# Altium schematic symbol library PowerDistribution.SchLib: 28 symbols
Pins are listed as number, name and electrical type; pins without a type are passive.

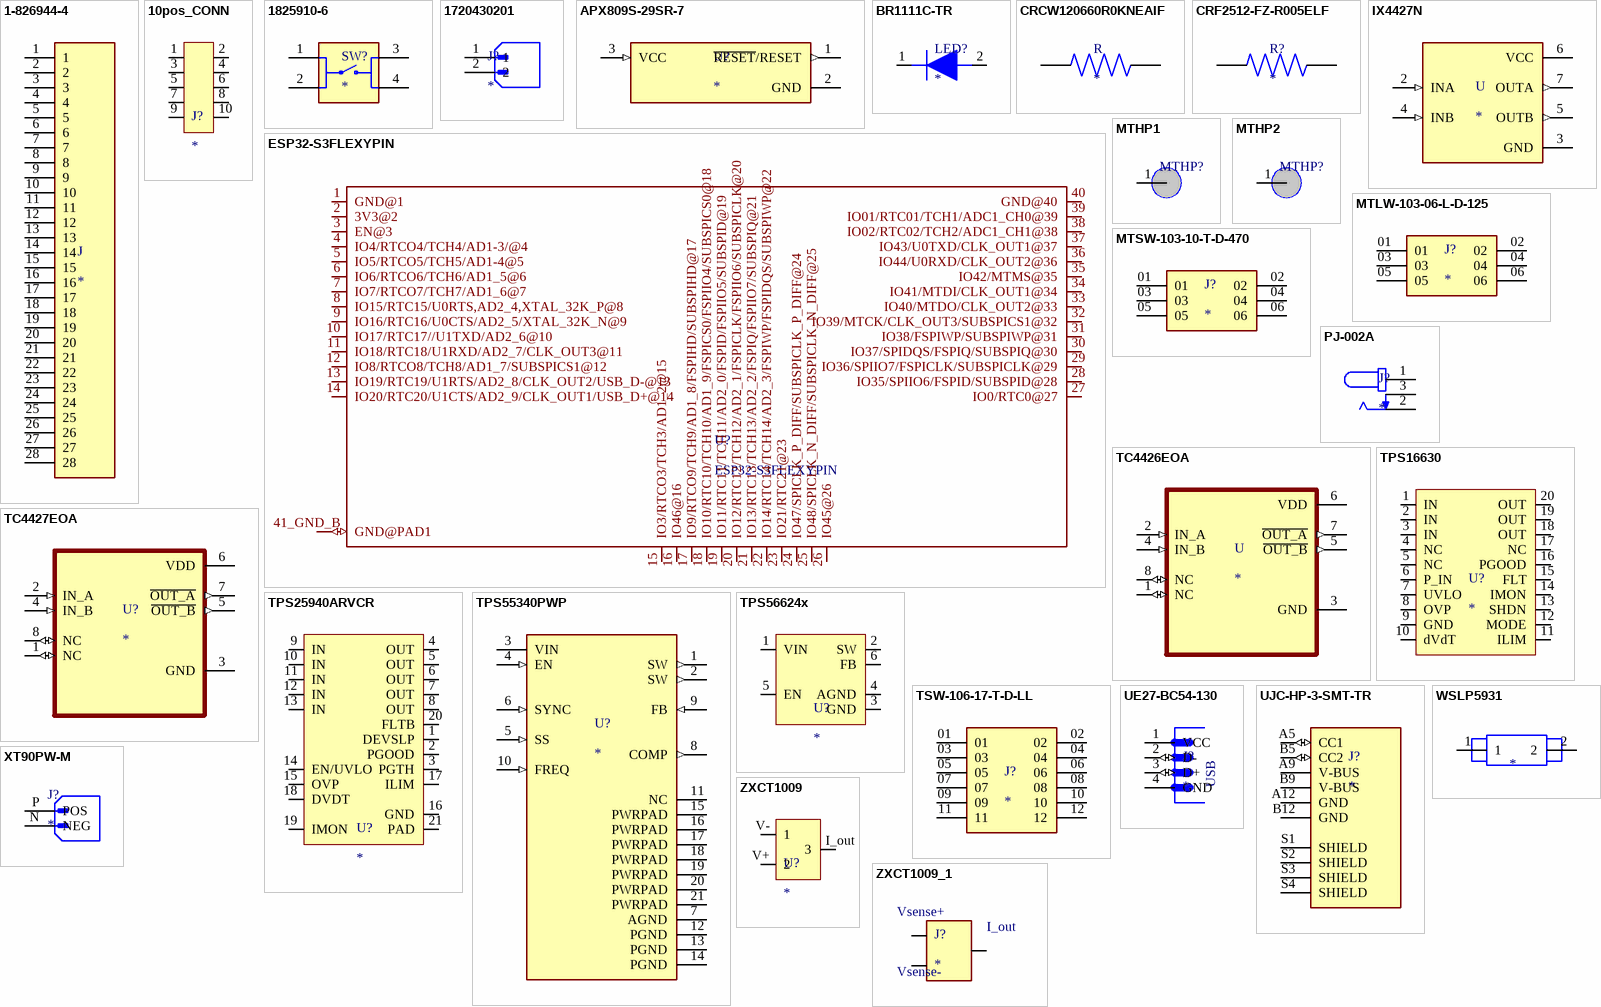
[diagram p0: symbols 1-826944-4 to ZXCT1009_1]

## 1-826944-4
designator J
Pin Connector 2X14 P MODU II BRK AWY HDR, TIN, B8 28 POS; MP: 1-826944-4; MF: TE Connectivity; SnapEDA_Link: https://www.snapeda.com/parts/1-826944-4/TE%20Connectivity/view-part/3096440/?ref=snap; Price: None; TE_purchase_URL: https://www.te.com/usa-en/product-1-826944-4.html?te_bu=Cor&te_type=disp&te_campaign=seda_glo_cor-seda-global-disp-prtnr-fy19-seda-model-bom-cta_sma-317_1&elqCampaignId=32493; Value: *; Availability: Unavailable; Package: None
footprint TE_1-826944-4
pins: 1, 2, 3, 4, 5, 6, 7, 8, 9, 10, 11, 12, 13, 14, 15, 16, 17, 18, 19, 20, 21, 22, 23, 24, 25, 26, 27, 28

## 10pos_CONN
designator J?
footprint 61301021121
pins: 1, 2, 3, 4, 5, 6, 7, 8, 9, 10

## 1825910-6
designator SW?
Switch Push Button OFF (ON) SPST Round Button 0.05A 24VDC Momentary Contact PC Pins Thru-Hole; MP: 1825910-6; MF: TE Connectivity; Value: *; Package: None; Check_prices: https://www.snapeda.com/parts/1825910-6/TE+Connectivity+ALCOSWITCH+Switches/view-part/?ref=eda; SnapEDA_Link: https://www.snapeda.com/parts/1825910-6/TE+Connectivity+ALCOSWITCH+Switches/view-part/?ref=snap; Digi-Key_Part_Number: 450-1650-ND; Purchase-URL: https://pricing.snapeda.com/search/part/1825910-6/?ref=eda
footprint SW_1825910-6-4
pins: 1, 2, 3, 4

## 1720430201
designator J?
MP: 1720430201; Value: *; Price: None; Availability: Unavailable; Package: None
footprint MOLEX_1720430201
pins: 1, 2

## APX809S-29SR-7
designator U?
Supervisor Push-Pull, Totem Pole 1 Channel SOT-23-3; MF: Diodes Inc.; MP: APX809S-29SR-7; SnapEDA_Link: https://www.snapeda.com/parts/APX809S-29SR-7/Diodes+Inc./view-part/?ref=snap; Package: SOT-23-3 Diodes Inc.; Value: *; Check_prices: https://www.snapeda.com/parts/APX809S-29SR-7/Diodes+Inc./view-part/?ref=eda
footprint SOT91P240X110-3N
pins: 1 ~{RESET}/RESET (out), 2 GND (power), 3 VCC (in)

## BR1111C-TR
designator LED?
footprint LED_APHD1608LVBC/D
pins: 1, 2

## CRCW120660R0KNEAIF
designator R
60 Ohms Â±10% 0.25W, 1/4W Chip Resistor 1206 (3216 Metric) Automotive AEC-Q200, Pulse Withstanding Thick Film; MP: CRCW120660R0KNEAIF; MF: Vishay Dale; Value: *; Package: 3116 Vishay; SnapEDA_Link: https://www.snapeda.com/parts/CRCW120660R0KNEAIF/Vishay%20Dale/view-part/988213/?ref=snap; Digi-Key_Part_Number: 541-CRCW120660R0KNEAIFCT-ND
footprint RESC3116X60N
pins: 1, 2

## CRF2512-FZ-R005ELF
designator R?
RES SMD 5 MOHM 1% 2W 2512; MP: CRF2512-FZ-R005ELF; Package: None; Price: None; Value: *; Availability: Unavailable
footprint RESC3116X60N
pins: 1, 2

## ESP32-S3FLEXYPIN
designator U?
footprint ESP32-S3-FLEXYPIN
pins: 1 GND@1 (io), 2 3V3@2 (io), 3 EN@3 (io), 4 IO4/RTCO4/TCH4/AD1-3/@4 (io), 5 IO5/RTCO5/TCH5/AD1-4@5 (io), 6 IO6/RTCO6/TCH6/AD1_5@6 (io), 7 IO7/RTCO7/TCH7/AD1_6@7 (io), 8 IO15/RTC15/U0RTS,AD2_4,XTAL_32K_P@8 (io), 9 IO16/RTC16/U0CTS/AD2_5/XTAL_32K_N@9 (io), 10 IO17/RTC17//U1TXD/AD2_6@10 (io), 11 IO18/RTC18/U1RXD/AD2_7/CLK_OUT3@11 (io), 12 IO8/RTCO8/TCH8/AD1_7/SUBSPICS1@12 (io), 13 IO19/RTC19/U1RTS/AD2_8/CLK_OUT2/USB_D-@13 (io), 14 IO20/RTC20/U1CTS/AD2_9/CLK_OUT1/USB_D+@14 (io), 15 IO3/RTCO3/TCH3/AD1_2@15 (io), 16 IO46@16 (io), 17 IO9/RTCO9/TCH9/AD1_8/FSPIHD/SUBSPIHD@17 (io), 18 IO10/RTC10/TCH10/AD1_9/FSPICS0/FSPIIO4/SUBSPICS0@18 (io), 19 IO11/RTC11/TCH11/AD2_0/FSPID/FSPIIO5/SUBSPID@19 (io), 20 IO12/RTC12/TCH12/AD2_1/FSPICLK/FSPIIO6/SUBSPICLK@20 (io), 21 IO13/RTC13/TCH13/AD2_2/FSPIQ/FSPIIO7/SUBSPIQ@21 (io), 22 IO14/RTC14/TCH14/AD2_3/FSPIWP/FSPIDQS/SUBSPIWP@22 (io), 23 IO21/RTC21@23 (io), 24 IO47/SPICLK_P_DIFF/SUBSPICLK_P_DIFF@24 (io), 25 IO48/SPICLK_N_DIFF/SUBSPICLK_N_DIFF@25 (io), 26 IO45@26 (io), 27 IO0/RTC0@27 (io), 28 IO35/SPIIO6/FSPID/SUBSPID@28 (io), 29 IO36/SPIIO7/FSPICLK/SUBSPICLK@29 (io), 30 IO37/SPIDQS/FSPIQ/SUBSPIQ@30 (io), 31 IO38/FSPIWP/SUBSPIWP@31 (io), 32 IO39/MTCK/CLK_OUT3/SUBSPICS1@32 (io), 33 IO40/MTDO/CLK_OUT2@33 (io), 34 IO41/MTDI/CLK_OUT1@34 (io), 35 IO42/MTMS@35 (io), 36 IO44/U0RXD/CLK_OUT2@36 (io), 37 IO43/U0TXD/CLK_OUT1@37 (io), 38 IO02/RTC02/TCH2/ADC1_CH1@38 (io), 39 IO01/RTC01/TCH1/ADC1_CH0@39 (io), 40 GND@40 (io), 41_GND GND-PAD1 (io), 41_GND_B GND@PAD1 (io)

## IX4427N
designator U
Low-Side Gate Driver IC Non-Inverting 8-SOIC; MP: IX4427N; MF: IXYS Integrated; Value: *; Package: SOIC-8 IXYS; Availability: Good; DigiKey-Purchase-URL: https://snapeda.com/shop?store=DigiKey&id=610744; Price: None; SnapEDA_Link: https://www.snapeda.com/parts/IX4427N/IXYS%20Integrated%20Circuits%20Division/view-part/610744/?ref=snap; Mouser-Purchase-URL: https://snapeda.com/shop?store=Mouser&id=610744; Arrow_Electronics-Purchase-URL: https://snapeda.com/shop?store=Arrow+Electronics&id=610744
footprint SOIC127P600X175-8N - duplicate
pins: 2 INA (in), 3 GND (power), 4 INB (in), 5 OUTB (out), 6 VCC (power), 7 OUTA (out)

## MTHP1
designator MTHP?, comment CAN_Leads  (value not drawn)
Mounting Hole Plated
footprint MTH (Mounting Hole)
pins: 1

## MTHP2
designator MTHP?, comment CAN_Leads  (value not drawn)
Mounting Hole Plated
footprint MTH (Mounting Hole)
pins: 1

## MTLW-103-06-L-D-125
designator J?
MP: MTLW-103-06-L-D-125; Value: *; Package: None; Availability: Unavailable; Price: None
footprint SAMTEC_MTLW-103-06-L-D-125
pins: 01, 02, 03, 04, 05, 06

## MTSW-103-10-T-D-470
designator J?
MP: MTSW-103-10-T-D-470; Package: None; Price: None; Value: *; Availability: Unavailable
footprint SAMTEC_MTSW-103-10-T-D-470
pins: 01, 02, 03, 04, 05, 06

## PJ-002A
designator J?
2.0 x 6.5 mm, 2.5 A, Horizontal, Through Hole, Dc Power Jack Connector; MP: PJ-002A; MF: CUI Devices; Check_prices: https://www.snapeda.com/parts/PJ-002A/CUI+Devices/view-part/?ref=eda; Availability: In Stock; CUI_purchase_URL: https://www.cuidevices.com/product/interconnect/connectors/dc-power-connectors/jacks/pj-002a?utm_source=snapeda.com&utm_medium=referral&utm_campaign=snapedaBOM; SnapEDA_Link: https://www.snapeda.com/parts/PJ-002A/CUI+Devices/view-part/?ref=snap; Purchase-URL: https://pricing.snapeda.com/search/part/PJ-002A/?ref=eda; Price: None; Package: None; Value: *
footprint CUI_PJ-002A
pins: 1, 2, 3

## TC4426EOA
designator U
Low-Side Gate Driver IC Inverting 8-SOIC; MP: TC4426EOA; MF: Microchip; Package: SOIC-8 Microchip; Value: *; SnapEDA_Link: https://www.snapeda.com/parts/TC4426EOA/Microchip/view-part/238338/?ref=snap; Availability: Unavailable; Price: None
footprint SOIC127P600X175-8N
pins: 1 NC (io), 2 IN_A (in), 3 GND (power), 4 IN_B (in), 5 ~{OUT_B} (out), 6 VDD (power), 7 ~{OUT_A} (out), 8 NC (io)

## TC4427EOA
designator U?
Low-Side Gate Driver IC Non-Inverting 8-SOIC; MP: TC4427EOA; MF: Microchip; Check_prices: https://www.snapeda.com/parts/TC4427EOA/Microchip/view-part/?ref=eda; Value: *; Availability: In Stock; Price: None; Package: SOIC-8 Microchip; SnapEDA_Link: https://www.snapeda.com/parts/TC4427EOA/Microchip/view-part/?ref=snap; Purchase-URL: https://pricing.snapeda.com/search/part/TC4427EOA/?ref=eda
footprint SOIC127P599X175-8N
pins: 1 NC (io), 2 IN_A (in), 3 GND (power), 4 IN_B (in), 5 ~{OUT_B} (out), 6 VDD (power), 7 ~{OUT_A} (out), 8 NC (io)

## TPS16630
designator U?
footprint SOP65P640X110-21N
pins: 1 IN, 2 IN, 3 IN, 4 NC, 5 NC, 6 P_IN, 7 UVLO, 8 OVP, 9 GND, 10 dVdT, 11 ILIM, 12 MODE, 13 SHDN, 14 IMON, 15 FLT, 16 PGOOD, 17 NC, 18 OUT, 19 OUT, 20 OUT

## TPS25940ARVCR
designator U?
footprint QFN50P400X300X80-21N
pins: 1 DEVSLP, 2 PGOOD, 3 PGTH, 4 OUT, 5 OUT, 6 OUT, 7 OUT, 8 OUT, 9 IN, 10 IN, 11 IN, 12 IN, 13 IN, 14 EN/UVLO, 15 OVP, 16 GND, 17 ILIM, 18 DVDT, 19 IMON, 20 FLTB, 21 PAD

## TPS55340PWP
designator U?
Integrated, 5-A 40-V Wide Input Range Boost/SEPIC/Flyback DC-DC Regulator 14-HTSSOP -40 to 150; MF: Texas Instruments; MP: TPS55340PWP; Check_prices: https://www.snapeda.com/parts/TPS55340PWP/Texas+Instruments/view-part/?ref=eda; Price: None; SnapEDA_Link: https://www.snapeda.com/parts/TPS55340PWP/Texas+Instruments/view-part/?ref=snap; Value: *; Availability: In Stock; Package: HTSSOP-14 Texas Instruments; Purchase-URL: https://pricing.snapeda.com/search/part/TPS55340PWP/?ref=eda
footprint IC_TPS55340PWP
pins: 1 SW (out), 2 SW (out), 3 VIN (power), 4 EN (in), 5 SS (in), 6 SYNC (in), 7 AGND (power), 8 COMP (out), 9 FB (in), 10 FREQ (in), 11 NC (power), 12 PGND (power), 13 PGND (power), 14 PGND (power), 15 PWRPAD (power), 16 PWRPAD (power), 17 PWRPAD (power), 18 PWRPAD (power), 19 PWRPAD (power), 20 PWRPAD (power), 21 PWRPAD (power)

## TPS56624x
designator U?
footprint SOT23_6pin (SOT23, 6-Leads, Body 1.60x2.45mm, Pitch 0.50mm, IPC Medium Density)
pins: 1 VIN, 2 SW, 3 GND, 4 AGND, 5 EN, 6 FB

## TSW-106-17-T-D-LL
designator J?
MP: TSW-106-17-T-D-LL; Package: None; Price: None; Value: *; Availability: Unavailable
footprint SAMTEC_TSW-106-17-T-D-LL
pins: 01, 02, 03, 04, 05, 06, 07, 08, 09, 10, 11, 12

## UE27-BC54-130
designator J?
connector, universal serial bus, type b, rt angle receptacle, black, 4 contact; MP: UE27-BC54-130; Package: None; Price: None; Value: *; Availability: Unavailable
footprint AMPHENOL_UE27-BC54-130
pins: 1 VCC (power), 2 D- (io), 3 D+ (io), 4 GND (power)
text: USB

## UJC-HP-3-SMT-TR
designator J?
Type C, 3 A, Right Angle, Surface Mount (SMT), Power-Only USB Receptacle; MP: UJC-HP-3-SMT-TR; Value: *; Availability: Unavailable; Price: None; Package: None
footprint CUI_UJC-HP-3-SMT-TR
pins: A5 CC1 (io), A9 V-BUS (power), A12 GND (power), B5 CC2 (io), B9 V-BUS (power), B12 GND (power), S1 SHIELD, S2 SHIELD, S3 SHIELD, S4 SHIELD

## WSLP5931
designator ?
Chip Resistor Nonstandard Anti-Sulfur, Automotive AEC-Q200, Current Sense, Moisture Resistant, Pulse Withstanding Metal Element; MP: WSLP59313L000FEB; MF: Vishay Dale; Price: None; Package: 5931 Vishay Dale; Value: *; Availability: Unavailable; SnapEDA_Link: https://www.snapeda.com/parts/WSLP59313L000FEB/Vishay%20Dale/view-part/229340/?ref=snap
footprint VISHAY_WSLP5931
pins: 1, 2

## XT90PW-M
designator J?
Socket; DC supply; XT90; male; PIN: 2; on PCBs; THT; Colour: yellow; MF: AMASS; MP: XT90PW-M; SnapEDA_Link: https://www.snapeda.com/parts/XT90PW-M/AMASS/view-part/?ref=snap; Package: Package; Value: *; Check_prices: https://www.snapeda.com/parts/XT90PW-M/AMASS/view-part/?ref=eda
footprint AMASS_XT90PW-M
pins: N NEG, P POS

## ZXCT1009
designator U?
footprint SOT91P240X120-3N
pins: I_out 3, V+ 2, V- 1

## ZXCT1009_1
designator J?
High Performance Current Monitor; MF: Diodes Zetex; MP: ZXCT1009; SnapEDA_Link: https://www.snapeda.com/parts/ZXCT1009/Zetex/view-part/?ref=snap; Package: None; Value: *; Check_prices: https://www.snapeda.com/parts/ZXCT1009/Zetex/view-part/?ref=eda
footprint SOT23
pins: 1 VSENSE+ (io), 2 VSENSE- (io), 3 IOUT (io)
text: Vsense+; I_out; Vsense-